# Altium schematic symbol library 2020-10-30_00-15-48.SchLib: 2 symbols
Pins are listed as number, name and electrical type; pins without a type are passive.

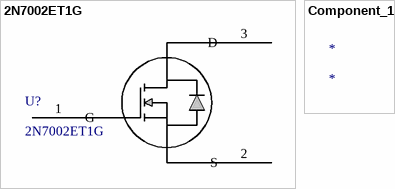
[diagram p0: symbols 2N7002ET1G to Component_1]

## 2N7002ET1G
designator U?
No Description Available; Vendor: ON Semiconductor; Built_By: EMA_UL_Team; SourceLibrary: ON_Semi_2010-01-01; Manufacturer_Part_Number: 2N7002ET1G; Copyright: Copyright (C) 2018 Accelerated Designs. All rights reserved; RefDes: RefDes; Type: DEV
footprint SOT-23_ONS
pins: 1 G, 2 S, 3 D

## Component_1
designator *